# Altium schematic symbol library OTHNER.SCHLIB: 54 symbols
Pins are listed as number, name and electrical type; pins without a type are passive.

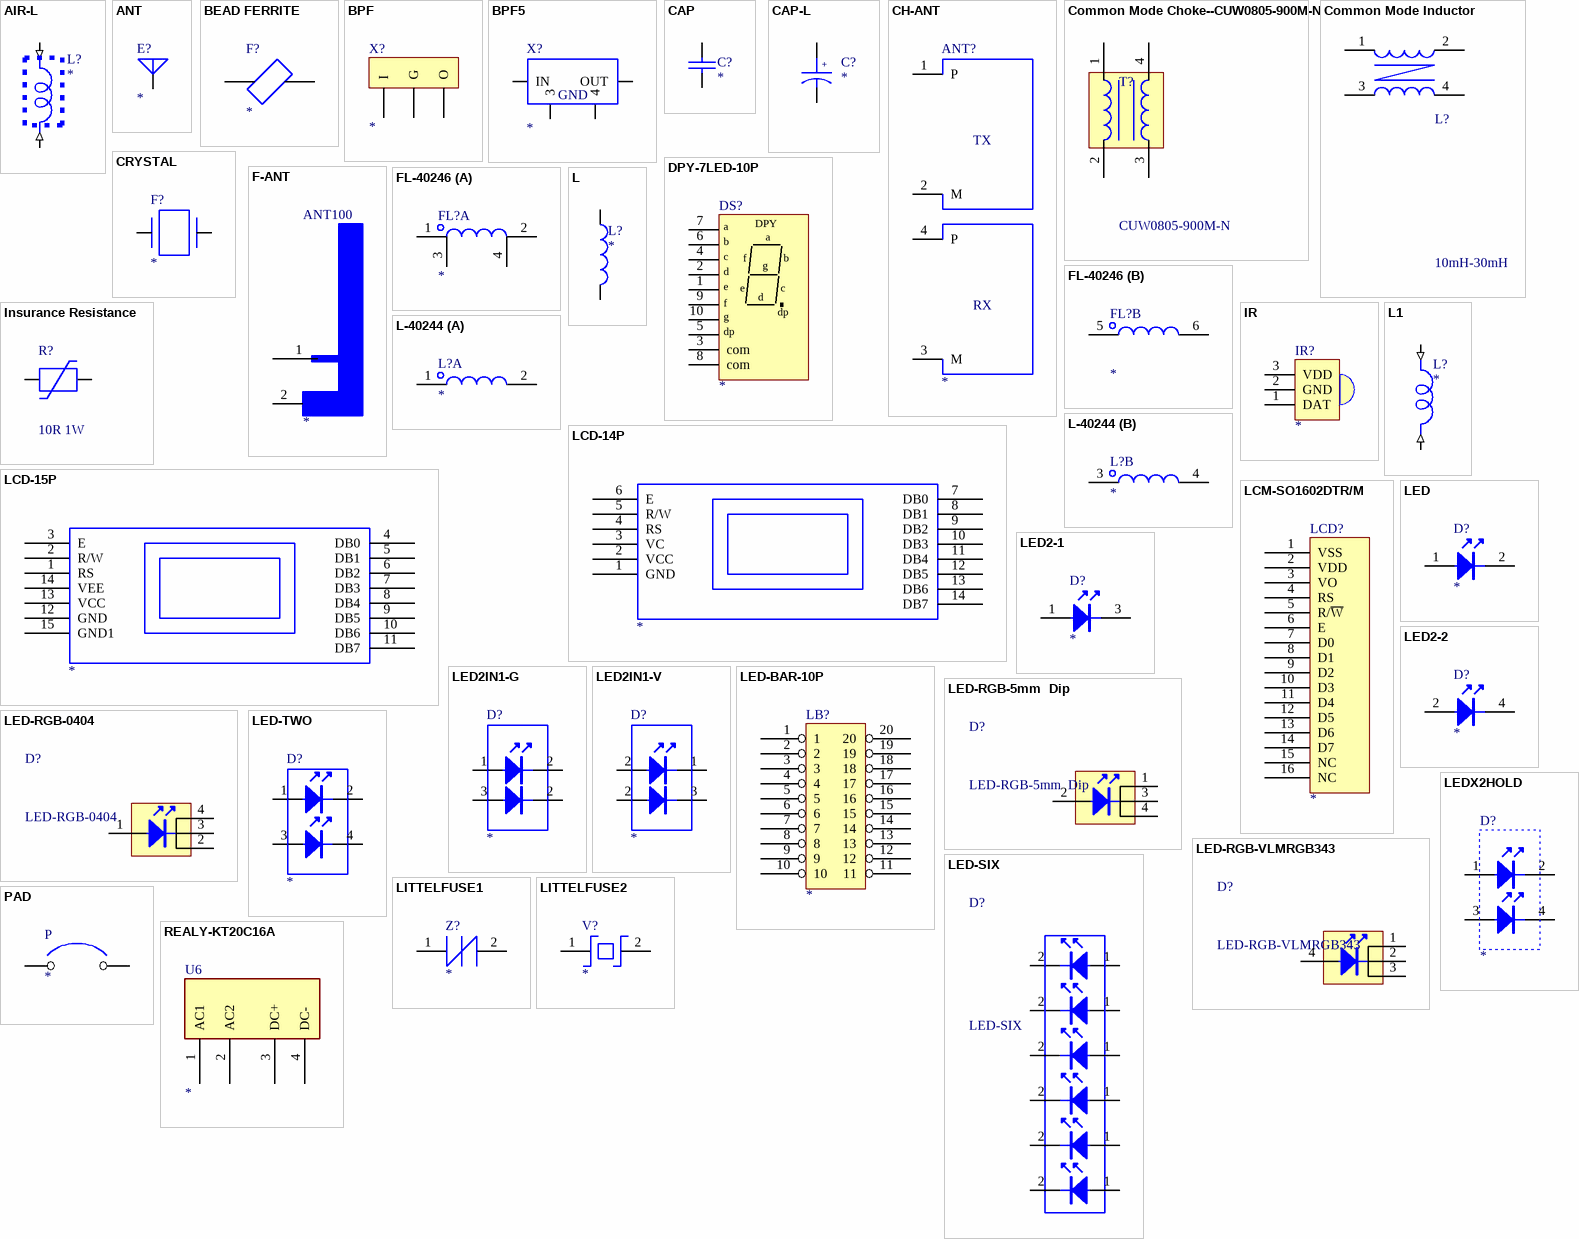
[diagram p0: symbols AIR-L to REALY-KT20C16A]

## AIR-L
designator L?
Text Field1: 20; Text Field2: 50
footprint LT
footprint SHL
footprint SHL-C
footprint SL
pins: 1 LEAD A (in), 2 LEAD B (in)

## ANT
designator E?
D
footprint RFANT5220110A0T
pins: 1

## BEAD FERRITE
designator F?
Text Field1: 20; Text Field2: 20
footprint DLR
pins: 1, 2

## BPF
designator X?
Connector
footprint PIN3
pins: 1 I, 2 G, 3 O

## BPF5
designator X?
Connector
footprint BPF24
pins: 1 IN, 2 OUT, 3, 4
text: GND

## CAP
designator C?
Capacitor
footprint 0603C
footprint 0805
footprint 1206
pins: 1, 2

## CAP-L
designator C?
Text Field1: 20; Text Field2: 20
footprint DIPC1
footprint DIPC2
footprint DIPC3
footprint DIPC4
pins: 1 2, 2 1
text: +

## CH-ANT
designator ANT?
Connector
footprint CH-ANT
pins: 1 P, 2 M, 3 M, 4 P
text: TX; RX

## Common Mode Choke--CUW0805-900M-N
designator T?, comment CUW0805-900M-N
pins: 1, 2, 3, 4

## Common Mode Inductor
designator L?, comment 10mH-30mH
pins: 1, 2, 3, 4

## CRYSTAL
designator F?
Text Field1: 20; Text Field2: 20
footprint C28
pins: 1, 2

## DPY-7LED-10P
designator DS?
Seven-Segment Display, Right Hand Decimal
footprint DPY-7LED-10P
pins: 1 e, 2 d, 3 com, 4 c, 5 dp, 6 b, 7 a, 8 com, 9 f, 10 g
text: DPY

## F-ANT
designator ANT100
Right: *; Bottom: *; PCB_loc: *; PCB_dir: *; PCB_y: *; PCB_x: *; Package Height: *; Part Number: *; Old Part Number: *; Tolerance: *; Rating: *; Part Status: *; VALUE_ALLEGRO: *
footprint F-ANT
pins: 1 Signal, 2 GND
2 alternate drawings of the same symbol

## FL-40246
designator FL?
part A pins: 1, 2, 3, 4
part B pins: 5, 6

## Insurance Resistance
designator R?, comment 10R 1W
Connector
footprint BPF24
pins: 1, 2

## IR
designator IR?
footprint 3PIN-254
pins: 1 DAT, 2 GND, 3 VDD
2 alternate drawings of the same symbol

## L
designator L?
footprint 0805
footprint 1008
footprint DLR
footprint SMDL
pins: 1, 2

## L1
designator L?
Text Field1: 20; Text Field2: 50
footprint 1008
footprint 0805
footprint DLR
footprint SMDL
pins: 1 LEAD A (in), 2 LEAD B (in)

## L-40244
designator L?
part A pins: 1, 2
part B pins: 3, 4

## LCD-14P
designator ?
pins: 1 GND, 2 VCC, 3 VC, 4 RS, 5 R/W, 6 E, 7 DB0, 8 DB1, 9 DB2, 10 DB3, 11 DB4, 12 DB5, 13 DB6, 14 DB7

## LCD-15P
designator ?
pins: 1 RS, 2 R/W, 3 E, 4 DB0, 5 DB1, 6 DB2, 7 DB3, 8 DB4, 9 DB5, 10 DB6, 11 DB7, 12 GND, 13 VCC, 14 VEE, 15 GND1

## LCM-SO1602DTR/M
designator LCD?
footprint LCM-SO1602DTR/M
pins: 1 VSS, 2 VDD, 3 VO, 4 RS, 5 R/~{W}, 6 E, 7 D0, 8 D1, 9 D2, 10 D3, 11 D4, 12 D5, 13 D6, 14 D7, 15 NC, 16 NC

## LED
designator D?
footprint LED3
footprint LED5D
footprint LED3F
pins: 1, 2

## LED2-1
designator D?
footprint 2LED-SML-P24MUW
pins: 1, 3

## LED2-2
designator D?
footprint 2LED-SML-P24MUW
pins: 2, 4

## LED2IN1-G
designator D?
pins: 1, 2, 2, 3

## LED2IN1-V
designator D?
pins: 1, 2, 2, 3

## LED-BAR-10P
designator LB?
footprint LED-BAR-10S
pins: 1, 2, 3, 4, 5, 6, 7, 8, 9, 10, 11, 12, 13, 14, 15, 16, 17, 18, 19, 20

## LED-RGB-5mm  Dip
designator D?
footprint LED-RGB-0404
footprint LED5D
footprint LED3F
pins: 1, 2, 3, 4

## LED-RGB-0404
designator D?
footprint LED-RGB-0404
footprint LED5D
footprint LED3F
pins: 1, 2, 3, 4

## LED-RGB-VLMRGB343
designator D?
footprint LED-RGB-VLMRGB343
footprint LED5D
footprint LED3F
pins: 1, 2, 3, 4

## LED-SIX
designator D?
footprint LED-SIX (Footprint not found)
pins: 1, 1, 1, 1, 1, 1, 2, 2, 2, 2, 2, 2

## LED-TWO
designator D?
footprint LED-TWO
pins: 1, 2, 3, 4

## LEDX2HOLD
designator D?
footprint LEDX2HOLD
pins: 1, 2, 3, 4

## LITTELFUSE1
designator Z?
Capacitor
pins: 1, 2

## LITTELFUSE2
designator V?
Capacitor
pins: 1, 2

## PAD
designator P
footprint PAD
footprint PAD2
pins: 1, 2

## REALY-KT20C16A
designator U6
footprint SOIC8
pins: 1 AC1, 2 AC2, 3 DC+, 4 DC-
2 alternate drawings of the same symbol

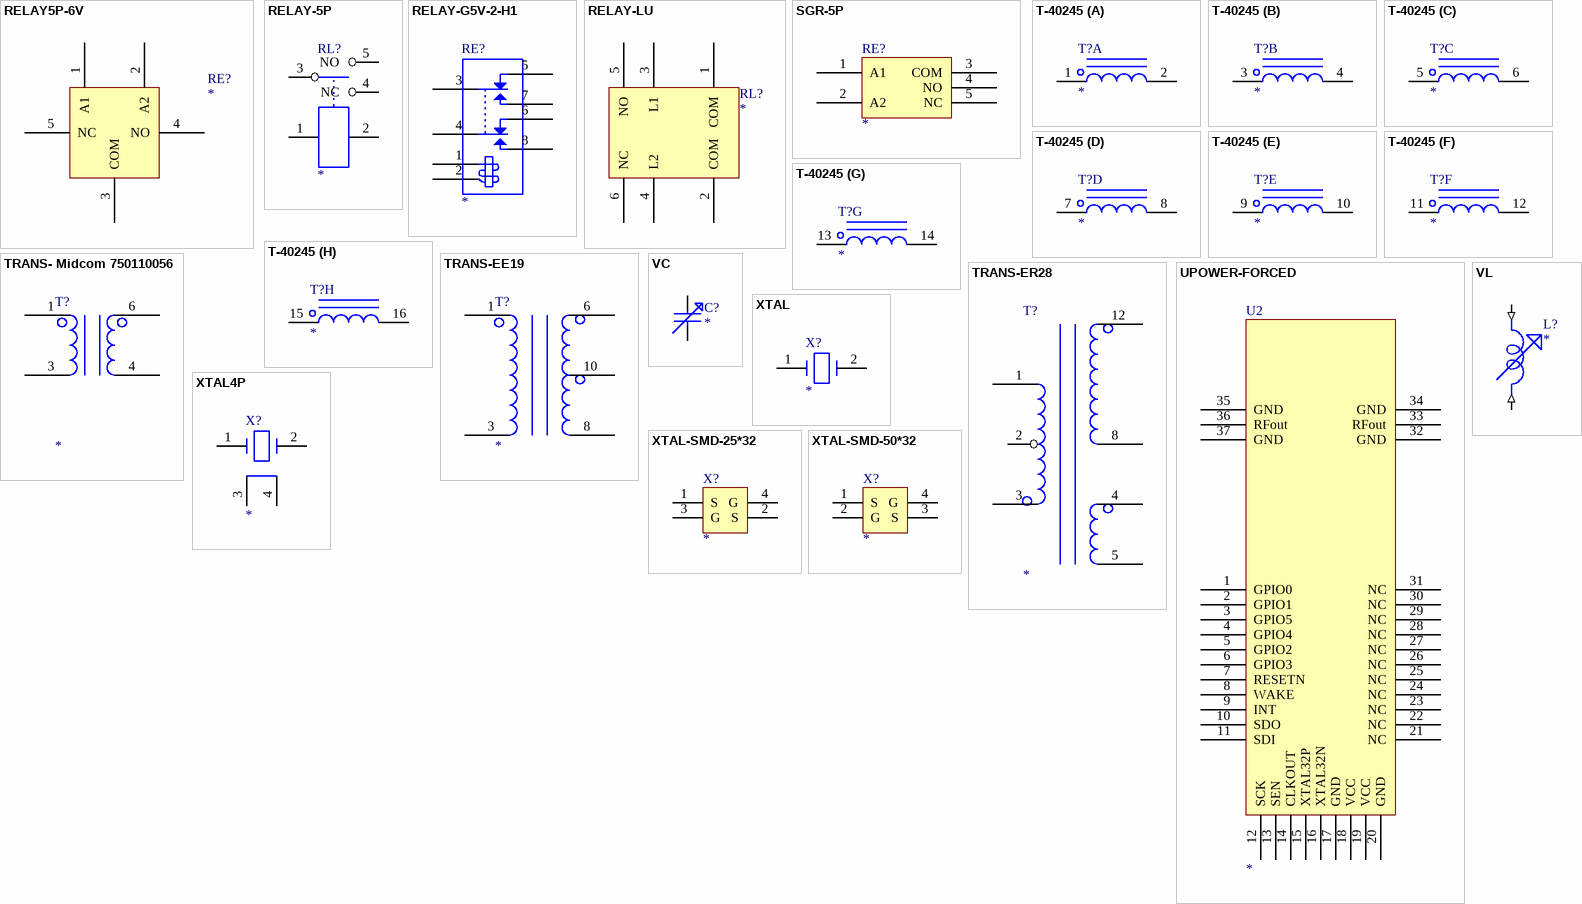
[diagram p1: symbols RELAY5P-6V to XTAL-SMD-50*32]

## RELAY5P-6V
designator RE?
footprint RELAY-SGR-5P
pins: 1 A1, 2 A2, 3 COM, 4 NO, 5 NC

## RELAY-5P
designator RL?
footprint RELAY-812
pins: 1 A1, 2 A2, 3 CON, 4 NC, 5 NO

## RELAY-G5V-2-H1
designator RE?
Right: *; Bottom: *
footprint RELAY-1
pins: 1 COIL1, 2 COIL2, 3 COMMON1, 4 COMMON2, 5 NC1, 6 NC2, 7 NO1, 8 NO2
2 alternate drawings of the same symbol

## RELAY-LU
designator RL?
value: *
footprint RELAY-LU
pins: 1 COM, 2 COM, 3 L1, 4 L2, 5 NO, 6 NC
2 alternate drawings of the same symbol

## SGR-5P
designator RE?
footprint RELAY-SGR-5P
pins: 1 A1, 2 A2, 3 COM, 4 NO, 5 NC

## T-40245
designator T?
part A pins: 1, 2
part B pins: 3, 4
part C pins: 5, 6
part D pins: 7, 8
part E pins: 9, 10
part F pins: 11, 12
part G pins: 13, 14
part H pins: 15, 16

## TRANS- Midcom 750110056
designator T?
footprint TRANS-EE19
pins: 1, 3, 4, 6

## TRANS-EE19
designator T?
EE19  T1=76t /0.18mm T2=9t /0.45mm
footprint TRANS-EE19
pins: 1, 3, 6, 8, 10

## TRANS-ER28
designator T?
footprint TRANS-ER28
pins: 1, 2, 3, 4, 5, 8, 12

## UPOWER-FORCED
designator U2
footprint UPOWER500
pins: 1 GPIO0, 2 GPIO1, 3 GPIO5, 4 GPIO4, 5 GPIO2, 6 GPIO3, 7 RESETN, 8 WAKE, 9 INT, 10 SDO, 11 SDI, 12 SCK, 13 SEN, 14 CLKOUT, 15 XTAL32P, 16 XTAL32N, 17 GND, 18 VCC, 19 VCC, 20 GND, 21 NC, 22 NC, 23 NC, 24 NC, 25 NC, 26 NC, 27 NC, 28 NC, 29 NC, 30 NC, 31 NC, 32 GND, 33 RFout, 34 GND, 35 GND, 36 RFout, 37 GND
2 alternate drawings of the same symbol

## VC
designator C?
Text Field1: 20; Text Field2: 10
footprint VC
pins: 1, 2

## VL
designator L?
Text Field1: 20; Text Field2: 50
footprint LT
footprint VL
pins: 1 LEAD A (in), 2 LEAD B (in)

## XTAL
designator X?
Text Field1: 20; Text Field2: 20
footprint XTAL
footprint FX3
footprint 76.8K
footprint 76.8K1
pins: 1, 2

## XTAL4P
designator X?
Text Field1: 20; Text Field2: 20
footprint XTAL-SMD-25*32
pins: 1, 2, 3, 4

## XTAL-SMD-25*32
designator X?
footprint XTAL-SMD-25*32
pins: 1 S, 2 S, 3 G, 4 G
2 alternate drawings of the same symbol

## XTAL-SMD-50*32
designator X?
footprint XTAL-SMD-25*32
pins: 1 S, 2 G, 3 S, 4 G
2 alternate drawings of the same symbol